# Altium schematic symbol library KipoAlt.SchLib: 644 symbols (part 4 of 4)
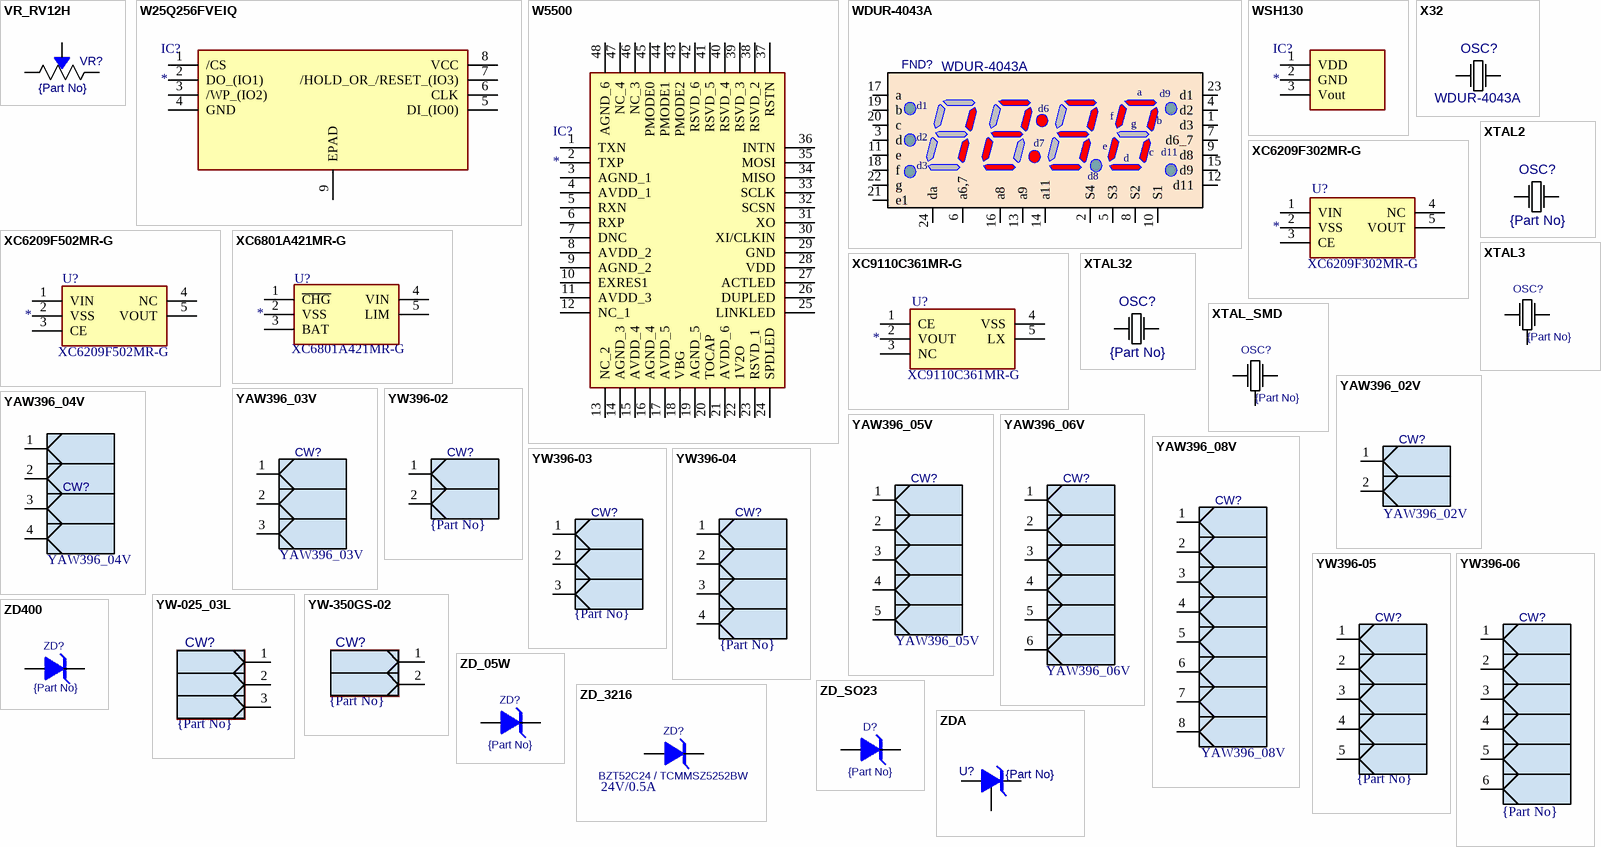
[diagram p21: symbols VR_RV12H to ZDA]

## W25Q256FVEIQ
designator IC?
Integrated Circuit; Manufacturer_Name: Winbond; Manufacturer_Part_Number: W25Q256FVEIQ; Datasheet Link: https://www.winbond.com/resource-files/w25q256fv%20revi%2002262016%20kms.pdf; Height: 0.8mm; Mouser Part Number: N/A; Mouser Price/Stock: https://www.mouser.co.uk/ProductDetail/Winbond/W25Q256FVEIQ?qs=rkhjVJ6%2F3EIs%252Bxj9ZfqDwQ%3D%3D
footprint SON127P800X600X80-9N-D
pins: 1 /CS, 2 DO_(IO1), 3 /WP_(IO2), 4 GND, 5 DI_(IO0), 6 CLK, 7 /HOLD_OR_/RESET_(IO3), 8 VCC, 9 EPAD

## W5500
designator IC?
Integrated Circuit; Manufacturer_Name: Wiznet Technology; Manufacturer_Part_Number: W5500; Datasheet Link: https://docs.wiznet.io/img/products/w5500/W5500_ds_v110e.pdf; Height: 1.6mm; Arrow Part Number: W5500; Arrow Price/Stock: https://www.arrow.com/en/products/w5500/wiznet?utm_currency=USD&region=nac
footprint QFP50P900X900X160-48N
pins: 1 TXN, 2 TXP, 3 AGND_1, 4 AVDD_1, 5 RXN, 6 RXP, 7 DNC, 8 AVDD_2, 9 AGND_2, 10 EXRES1, 11 AVDD_3, 12 NC_1, 13 NC_2, 14 AGND_3, 15 AVDD_4, 16 AGND_4, 17 AVDD_5, 18 VBG, 19 AGND_5, 20 TOCAP, 21 AVDD_6, 22 1V2O, 23 RSVD_1, 24 SPDLED, 25 LINKLED, 26 DUPLED, 27 ACTLED, 28 VDD, 29 GND, 30 XI/CLKIN, 31 XO, 32 SCSN, 33 SCLK, 34 MISO, 35 MOSI, 36 INTN, 37 RSTN, 38 RSVD_2, 39 RSVD_3, 40 RSVD_4, 41 RSVD_5, 42 RSVD_6, 43 PMODE2, 44 PMODE1, 45 PMODE0, 46 NC_3, 47 NC_4, 48 AGND_6

## WDUR-4043A
designator FND?
Price: 700; Part No.: WDUR-4043A
footprint WDUR-4043A
pins: 1 d3, 2 S4, 3 d, 4 d2, 5 S3, 6 a6,7, 7 d6_7, 8 S2, 9 d8, 10 S1, 11 e, 12 d11, 13 a9, 14 a11, 15 d9, 16 a8, 17 a, 18 f, 19 b, 20 c, 21 e1, 22 g, 23 d1, 24 da
text: d6; d7

## WSH130
designator IC?
Integrated Circuit; Manufacturer_Name: Analog Devices; Manufacturer_Part_Number: DS18B20+; Datasheet Link: https://ms.componentsearchengine.com/Datasheets/2/DS18B20+.pdf; Height: 4.95mm; Mouser Part Number: 700-DS18B20+; Mouser Price/Stock: https://www.mouser.co.uk/ProductDetail/Analog-Devices-Maxim-Integrated/DS18B20%2b?qs=7H2Jq%252ByxpJKegCKabDbglA%3D%3D; Arrow Part Number: DS18B20+; Arrow Price/Stock: https://www.arrow.com/en/products/ds18b20/analog-devices.html?utm_currency=USD&region=nac
footprint TO-92S
pins: 1 VDD, 2 GND, 3 Vout

## X32
designator OSC?  Part No.: WDUR-4043A  (hidden comment: X32)
Price: {Price}
footprint X32
pins: 1, 2

## XC6209F302MR-G
designator U?  Part No.: XC6209F302MR-G
Integrated Circuit; Manufacturer_Name: Torex; Datasheet Link: https://www.torexsemi.com/file/xc6209/XC6209.pdf; Height: 1.3mm; Mouser Part Number: 865-XC6209F302MR-G; Mouser Price/Stock: https://www.mouser.co.uk/ProductDetail/Torex-Semiconductor/XC6209F302MR-G?qs=AsjdqWjXhJ%2F4K4pP8jxe0Q%3D%3D; Price: {Price}
footprint SOT95P280X130-5N
pins: 1 VIN, 2 VSS, 3 CE, 4 NC, 5 VOUT

## XC6209F502MR-G
designator U?  Part No.: XC6209F502MR-G
Integrated Circuit; Manufacturer_Name: Torex; Datasheet Link: https://www.torexsemi.com/file/xc6209/XC6209.pdf; Height: 1.3mm; Mouser Part Number: 865-XC6209F502MR-G; Mouser Price/Stock: https://www.mouser.co.uk/ProductDetail/Torex-Semiconductor/XC6209F502MR-G?qs=AsjdqWjXhJ%252BXbf5nB64jJw%3D%3D; Price: {Price}
footprint SOT95P280X130-5N
pins: 1 VIN, 2 VSS, 3 CE, 4 NC, 5 VOUT

## XC6801A421MR-G
designator U?  Part No.: XC6801A421MR-G
Integrated Circuit; Manufacturer_Name: Torex; Datasheet Link: https://www.farnell.com/datasheets/610920.pdf; Height: 1.3mm; Mouser Part Number: 865-XC6801A421MR-G; Mouser Price/Stock: https://www.mouser.co.uk/ProductDetail/Torex-Semiconductor/XC6801A421MR-G?qs=AsjdqWjXhJ%252B%252ByQ%2FHQYLXpw%3D%3D; Price: {Price}
footprint SOT95P280X130-5N
pins: 1 ~{CHG}, 2 VSS, 3 BAT, 4 VIN, 5 LIM

## XC9110C361MR-G
designator U?  Part No.: XC9110C361MR-G
Integrated Circuit; Manufacturer_Name: Torex; Datasheet Link: https://product.torexsemi.com/system/files/series/xc9110.pdf; Height: 1.3mm; Mouser Part Number: 865-XC9110C361MR-G; Mouser Price/Stock: https://www.mouser.co.uk/ProductDetail/Torex-Semiconductor/XC9110C361MR-G?qs=AsjdqWjXhJ8YURoJlvy8FQ%3D%3D; Price: {Price}
footprint SOT95P280X130-5N
pins: 1 CE, 2 VOUT, 3 NC, 4 VSS, 5 LX

## XTAL2
designator OSC?  Part No.: {Part No}  (hidden comment: XTAL2)
Price: {Price}
footprint OSC2
pins: 1, 2

## XTAL3
designator OSC?  Part No.: {Part No}  (hidden comment: XTAL3)
Price: {Price}
footprint OSC3
pins: 1, 2, 3

## XTAL32
designator OSC?, comment Part No.: {Part No}  (hidden comment: XTAL2)
Price: {Price}
footprint X32
pins: 1, 2

## XTAL_SMD
designator OSC?  Part No.: {Part No}  (hidden comment: XTAL_SMD)
Price: {Price}
footprint CSTCR4M00G
pins: 1, 2, 3

## YAW396_02V
designator CW?
Price: 20; Part No.: YAW396_02V
footprint YAW396_02V
pins: 1, 2

## YAW396_03V
designator CW?
Price: 25; Part No.: YAW396_03V
footprint YAW396_03V
pins: 1, 2, 3

## YAW396_04V
designator CW?
Price: 28; Part No.: YAW396_04V
footprint YAW396_04V
pins: 1, 2, 3, 4

## YAW396_05V
designator CW?
Price: 39; Part No.: YAW396_05V
footprint YAW396_05V
pins: 1, 2, 3, 4, 5

## YAW396_06V
designator CW?
Price: {Price}; Part No.: YAW396_06V
footprint YAW396_06V
pins: 1, 2, 3, 4, 5, 6

## YAW396_08V
designator CW?
Price: {Price}; Part No.: YAW396_08V
footprint YAW396_08V
pins: 1, 2, 3, 4, 5, 6, 7, 8

## YW396-02
designator CW?  Part No.: {Part No}  (hidden comment: YW396-02)
Price: {Price}
footprint YW396_02
pins: 1, 2

## YW396-03
designator CW?  Part No.: {Part No}  (hidden comment: YW396-03)
footprint YW396_03
pins: 1, 2, 3

## YW396-04
designator CW?  Part No.: {Part No}  (hidden comment: YW396-04)
footprint YW396_04
pins: 1, 2, 3, 4

## YW396-05
designator CW?  Part No.: {Part No}  (hidden comment: YW396-05)
footprint YW396_05
pins: 1, 2, 3, 4, 5

## YW396-06
designator CW?  Part No.: {Part No}  (hidden comment: YW396-06)
footprint YW396_06
pins: 1, 2, 3, 4, 5, 6

## YW-025_03L
designator CW?  Part No.: {Part No}  (hidden comment: YW-025_03L)
Price: *
footprint YW_025_03_L
pins: 1, 2, 3

## YW-350GS-02
designator CW?  Part No.: {Part No}  (hidden comment: YW-350GS-02)
Price: {Price}
footprint YW_025_02_L
pins: 1, 2

## ZD400
designator ZD?  Part No.: {Part No}  (hidden comment: ZD400)
Price: {Price}
footprint ZD400
pins: 1, 2

## ZD_05W
designator ZD?  Part No.: {Part No}  (hidden comment: ZD_05W)
Price: {Price}
footprint ZD_05W
pins: 1, 2

## ZD_3216
designator ZD?  value 24V/0.5A  Part No.: BZT52C24 / TCMMSZ5252BW  (hidden comment: ZD_3216)
24V/0.5A; Price: 17
footprint ZD3216M
pins: 1, 2

## ZD_SO23
designator D?  Part No.: {Part No}  (hidden comment: ZD_SO23)
Price: {Price}
footprint SOT-23
pins: 1 hidden, 2 C, 3 A

## ZDA
designator U?  Part No.: {Part No}  (hidden comment: ZDA)
Price: {Price}
footprint TO92
pins: 1, 2, 3